# EAGLE library part TPS3514_D_14 (library shit)
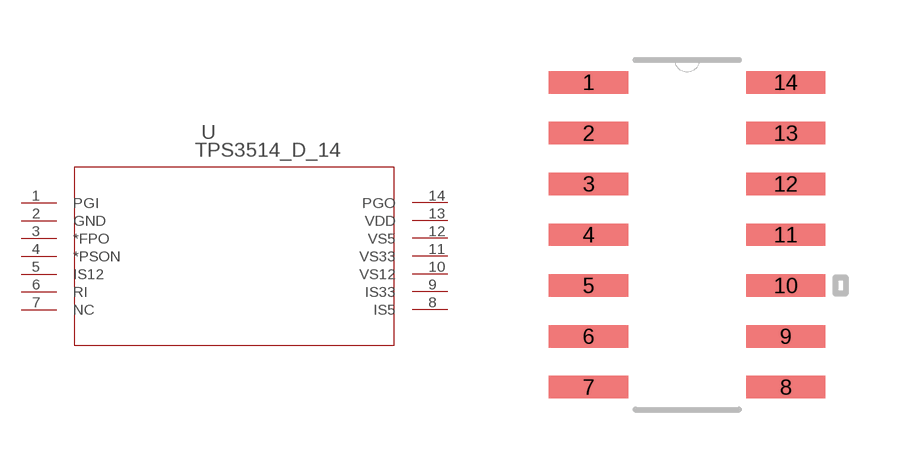
[diagram p4: symbol with the pads of D14; footprint D14]

Designator prefix U

## TPS3514_D_14 (DATASHEETURL: http://www.ti.com/lit/gpn/TPS3514; DESCRIPTION: 3 Ch Supervisor with Over Current Detect for Switchmode Power Supplies; FAMILY_NAME: SUPERVISOR AND RESET IC; GENERIC_PART_NUMBER: TPS3514; INDUSTRY_STD_PKG_TYPE: SOIC; MANUFACTURER: Texas Instruments; MANUFACTURER_PART_NUMBER: tps3514_d_14; PACKAGE_DESIGNATOR: D; PIN_COUNT: 14; VENDOR: Texas Instruments)  [D14]
1  PGI  in
2  GND  pwr
3  *FPO  out
4  *PSON  in
5  IS12  in
6  RI  in
7  NC  pas
8  IS5  in
9  IS33  in
10  VS12  in
11  VS33  in
12  VS5  in
13  VDD  in
14  PGO  out

## Footprint D14 (pad centres in mm)
smd 1.981 x 0.559: 1 -2.464,3.81; 2 -2.464,2.54; 3 -2.464,1.27; 4 -2.464,0; 5 -2.464,-1.27; 6 -2.464,-2.54; 7 -2.464,-3.81; 8 2.464,-3.81; 9 2.464,-2.54; 10 2.464,-1.27; 11 2.464,0; 12 2.464,1.27; 13 2.464,2.54; 14 2.464,3.81